# Altium footprint library SoldeerBoutLib.PcbLib: 31 footprints (part 1 of 2)
Each footprint in its own frame and in the unit in brackets; x right, y up, seen from the top. Pads: shape width x height; smd on the part's side, far side on the other; paste and mask are expansions set on the pad; w line width, h text height; cw(c..) or ccw(c..) is an arc to the next point about the centre after c.
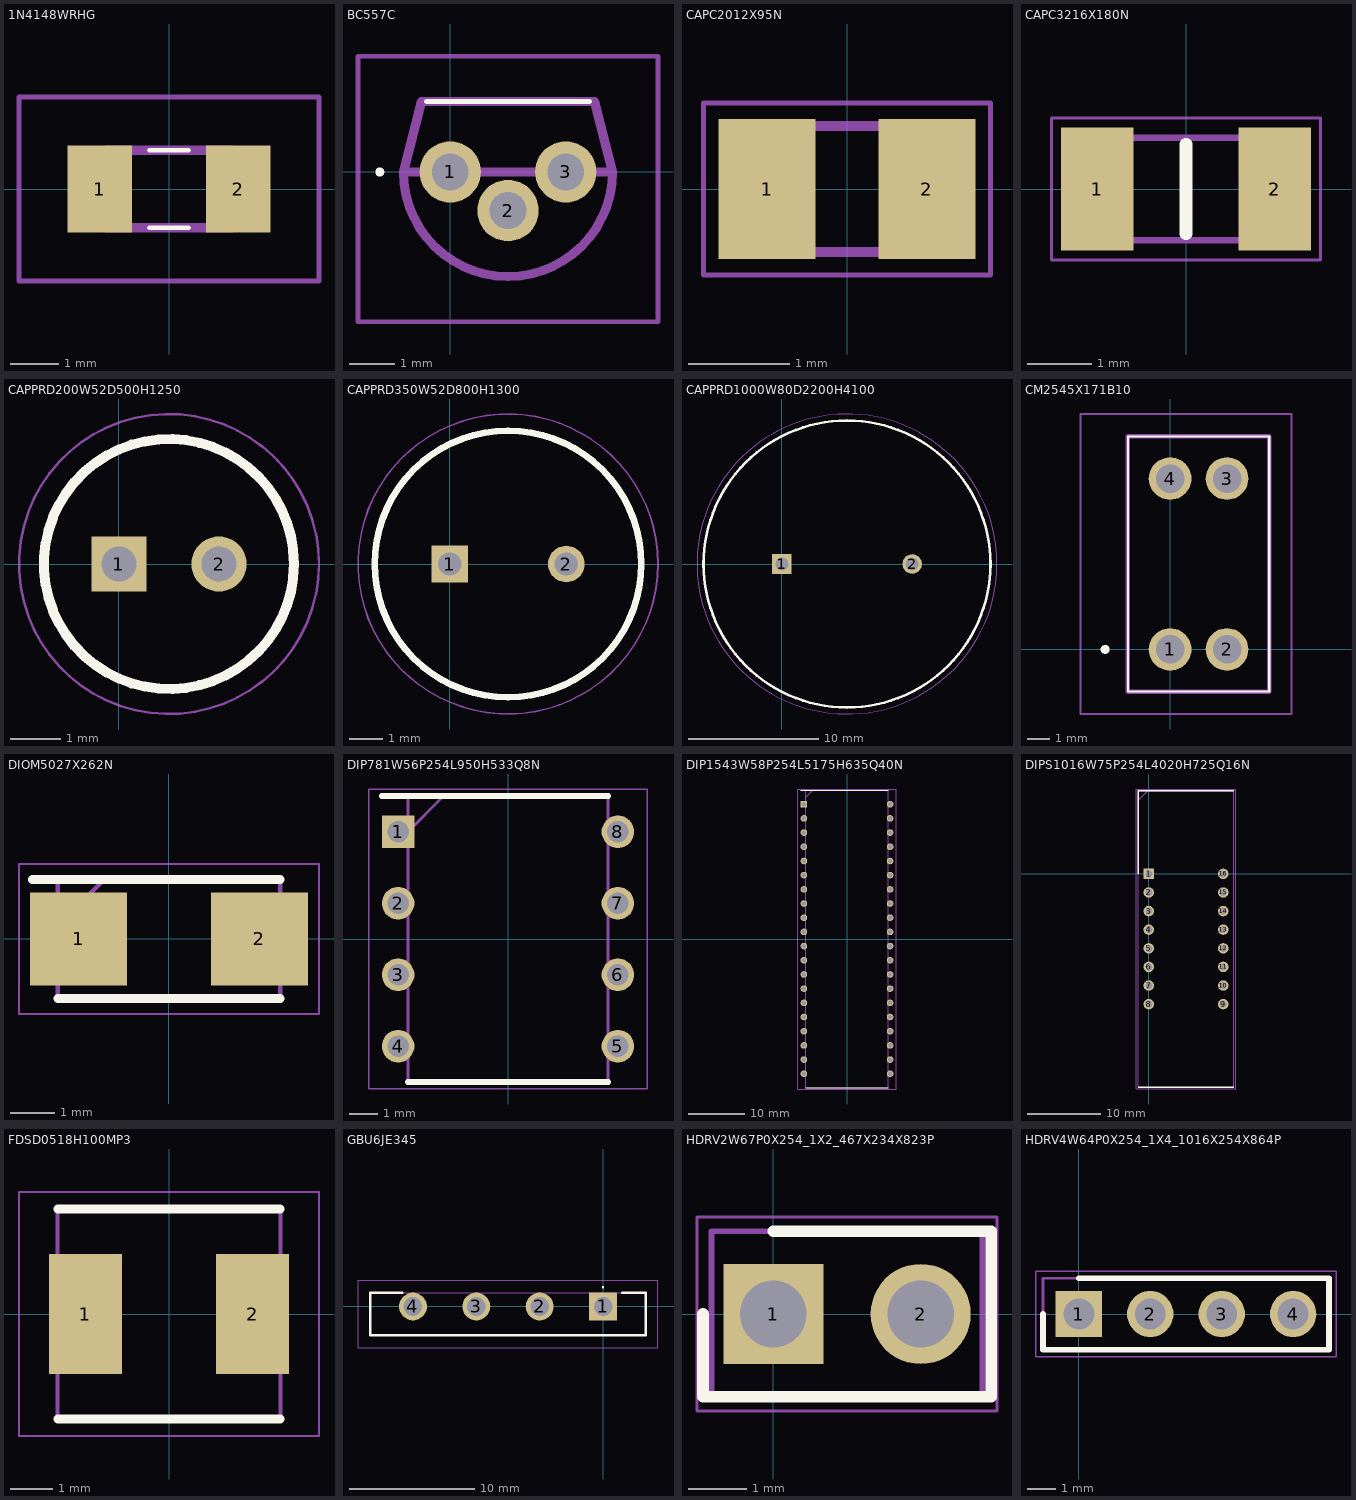
[diagram p0: the footprints below, top view; thin cyan lines are the x and y axes]

## 1N4148WRHG [mm]
pads (2):
  rect 1.34x1.8 smd: 1(-1.43,0) 2(1.43,0)
Top Overlay:
  lines w0.1: -0.4,-0.8 0.4,-0.8 ; -0.4,0.8 0.4,0.8
Mechanical 13:
  lines w0.2: -1.3,-0.8 -1.3,0.8 1.3,0.8 1.3,-0.8 -1.3,-0.8
Mechanical 15:
  lines w0.1: -3.1,-1.9 -3.1,1.9 3.1,1.9 3.1,-1.9 -3.1,-1.9
3D body "1N4148W_RHG.stp": height 1.15, standoff 0, extent -1.95,-0.85 1.95,0.85

## BC557C [mm]
pads (3):
  round 1.35 hole 0.81: 1(0,0) 2(1.27,-0.85) 3(2.54,0)
Top Overlay:
  lines w0.1: -0.53,1.55 3.07,1.55 ; -1.6,0 cw(c-1.55,0) -1.5,0 cw(c-1.55,0) -1.6,0
Mechanical 13:
  lines w0.2: -1.03,0 ccw(c1.27,0) 3.57,0 ; -1.03,0 -0.63,1.55 3.17,1.55 3.57,0 ; -1.03,0 3.57,0
Mechanical 15:
  lines w0.1: -2.03,-3.3 -2.03,2.55 4.57,2.55 4.57,-3.3 -2.03,-3.3

## CAPC2012X95N [mm]
pads (2):
  rect 0.96x1.39 smd: 1(-0.79,0) 2(0.79,0)
Mechanical 13:
  lines w0.1: -1,-0.625 1,-0.625 1,0.625 -1,0.625 -1,-0.625
Mechanical 15:
  lines w0.05: -1.42,-0.85 1.42,-0.85 1.42,0.85 -1.42,0.85 -1.42,-0.85
3D body "CC0805KPX7R9BB104.stp": height 0.95, standoff 0, extent -1,-0.625 1,0.625

## CAPC3216X180N [mm]
pads (2):
  rect 1.13x1.92 smd: 1(-1.39,0) 2(1.39,0)
Top Overlay:
  lines w0.2: 0,-0.7 0,0.7
Mechanical 13:
  lines w0.1: -1.6,-0.8 1.6,-0.8 1.6,0.8 -1.6,0.8 -1.6,-0.8
Mechanical 15:
  lines w0.05: -2.105,-1.11 2.105,-1.11 2.105,1.11 -2.105,1.11 -2.105,-1.11
3D body "CC1206KKX5R8BB106.stp": height 1.8, standoff 0, extent -1.6,-0.8 1.6,0.8

## CAPPRD200W52D500H1250 [mm]
pads (2):
  rect 1.1x1.1 hole 0.7: 1(0,0)
  round 1.1 hole 0.7: 2(2,0)
Top Overlay:
  circle w0.2: c1,0 r2.5
Mechanical 13:
  circle w0.1: c1,0 r2.5
Mechanical 15:
  circle w0.05: c1,0 r3
3D body "860010672009.stp": height 12.5, standoff -10, extent -1.75,-2.75 3.75,2.75

## CAPPRD350W52D800H1300 [mm]
pads (2):
  rect 1.1x1.1 hole 0.7: 1(0,0)
  round 1.1 hole 0.7: 2(3.5,0)
Top Overlay:
  circle w0.2: c1.75,0 r4
Mechanical 13:
  circle w0.1: c1.75,0 r4
Mechanical 15:
  circle w0.05: c1.75,0 r4.5
3D body "860010674014.stp": height 13, standoff -10, extent -2.5,-4.25 6,4.25

## CAPPRD1000W80D2200H4100 [mm]
pads (2):
  rect 1.5x1.5 hole 1: 1(0,0)
  round 1.5 hole 1: 2(10,0)
Top Overlay:
  circle w0.2: c5,0 r11
Mechanical 13:
  circle w0.1: c5,0 r11
Mechanical 15:
  circle w0.05: c5,0 r11.5
3D body "860010683032.stp": height 41, standoff -10, extent -6.25,-11.25 16.25,11.25

## CM2545X171B10 [mm]
pads (4):
  round 1.905 hole 1.27: 1(0,0) 2(2.54,0) 3(2.54,7.62) 4(0,7.62)
Top Overlay:
  lines w0.1: -1.88,-1.88 -1.88,9.5 4.42,9.5 4.42,-1.88 -1.88,-1.88
  lines w0.2: -3,0 cw(c-2.9,0) -2.8,0 cw(c-2.9,0) -3,0
Mechanical 13:
  lines w0.2: -1.88,-1.88 -1.88,9.5 4.42,9.5 4.42,-1.88 -1.88,-1.88
Mechanical 15:
  lines w0.1: -4,-2.88 -4,10.5 5.42,10.5 5.42,-2.88 -4,-2.88
3D body "CM2545X171B-10.stp": height 9.6, standoff -5, extent -1.88,-1.88 4.42,9.5

## DIOM5027X262N [mm]
pads (2):
  rect 2.2x2.1 smd: 1(-2.05,0) 2(2.05,0)
Top Overlay:
  lines w0.2: -3.1,1.35 2.52,1.35 ; -2.52,-1.35 2.52,-1.35
Mechanical 13:
  lines w0.1: -2.52,0.3 -1.47,1.35 ; -2.52,-1.35 -2.52,1.35 2.52,1.35 2.52,-1.35 -2.52,-1.35
Mechanical 15:
  lines w0.05: -3.4,-1.7 -3.4,1.7 3.4,1.7 3.4,-1.7 -3.4,-1.7
3D body "1N4007_SMD.stp": height 2.62, standoff 0, extent -2.52,-1.35 2.52,1.35

## DIP781W56P254L950H533Q8N [mm]
pads (8):
  rect 1.158x1.158 hole 0.758: 1(-3.905,3.81)
  round 1.158 hole 0.758: 2(-3.905,1.27) 3(-3.905,-1.27) 4(-3.905,-3.81) 5(3.905,-3.81) 6(3.905,-1.27) 7(3.905,1.27) 8(3.905,3.81)
Top Overlay:
  lines w0.2: -4.484,5.08 3.556,5.08 ; -3.556,-5.08 3.556,-5.08
Mechanical 13:
  lines w0.1: -3.556,3.81 -2.286,5.08 ; -3.556,-5.08 -3.556,5.08 3.556,5.08 3.556,-5.08 -3.556,-5.08
Mechanical 15:
  lines w0.05: -4.956,-5.33 -4.956,5.33 4.956,5.33 4.956,-5.33 -4.956,-5.33
3D body "MCP6002-E_P.stp": height 5.33, standoff -3.5, extent -4.045,-4.75 4.045,4.75

## DIP1543W58P254L5175H635Q40N [mm]
pads (40):
  rect 1.184x1.184 hole 0.784: 1(-7.715,24.13)
  round 1.184 hole 0.784: 2(-7.715,21.59) 3(-7.715,19.05) 4(-7.715,16.51) 5(-7.715,13.97) 6(-7.715,11.43) 7(-7.715,8.89) 8(-7.715,6.35) 9(-7.715,3.81) 10(-7.715,1.27) 11(-7.715,-1.27) 12(-7.715,-3.81) 13(-7.715,-6.35) 14(-7.715,-8.89) 15(-7.715,-11.43) 16(-7.715,-13.97) 17(-7.715,-16.51) 18(-7.715,-19.05) 19(-7.715,-21.59) 20(-7.715,-24.13) 21(7.715,-24.13) 22(7.715,-21.59) 23(7.715,-19.05) 24(7.715,-16.51) 25(7.715,-13.97) 26(7.715,-11.43) 27(7.715,-8.89) 28(7.715,-6.35) 29(7.715,-3.81) 30(7.715,-1.27) 31(7.715,1.27) 32(7.715,3.81) 33(7.715,6.35) 34(7.715,8.89) 35(7.715,11.43) 36(7.715,13.97) 37(7.715,16.51) 38(7.715,19.05) 39(7.715,21.59) 40(7.715,24.13)
Top Overlay:
  lines w0.2: -8.307,26.606 7.366,26.606 ; -7.366,-26.606 7.366,-26.606
Mechanical 13:
  lines w0.1: -7.366,25.336 -6.096,26.606 ; -7.366,-26.606 -7.366,26.606 7.366,26.606 7.366,-26.606 -7.366,-26.606
Mechanical 15:
  lines w0.05: -8.78,-26.856 -8.78,26.856 8.78,26.856 8.78,-26.856 -8.78,-26.856
3D body "ATMEGA4809-PF.stp": height 6.35, standoff -3.5, extent -7.861,-25.876 7.861,25.876

## DIPS1016W75P254L4020H725Q16N [mm]
pads (16):
  rect 1.425x1.425 hole 0.95: 1(0,0)
  round 1.425 hole 0.95: 2(0,-2.54) 3(0,-5.08) 4(0,-7.62) 5(0,-10.16) 6(0,-12.7) 7(0,-15.24) 8(0,-17.78) 9(10.16,-17.78) 10(10.16,-15.24) 11(10.16,-12.7) 12(10.16,-10.16) 13(10.16,-7.62) 14(10.16,-5.08) 15(10.16,-2.54) 16(10.16,0)
Top Overlay:
  lines w0.2: -1.445,-29.115 11.605,-29.115 ; -1.445,0 -1.445,11.335 11.605,11.335
Mechanical 13:
  lines w0.1: -1.445,10.065 -0.175,11.335 ; -1.445,-29.115 -1.445,11.335 11.605,11.335 11.605,-29.115 -1.445,-29.115
Mechanical 15:
  lines w0.05: -1.695,-29.365 -1.695,11.585 11.855,11.585 11.855,-29.365 -1.695,-29.365

## FDSD0518H100MP3 [mm]
pads (2):
  rect 1.7x2.8 smd: 1(-1.95,0) 2(1.95,0)
Top Overlay:
  lines w0.2: -2.6,-2.45 2.6,-2.45 ; -2.6,2.45 2.6,2.45
Mechanical 13:
  lines w0.1: -2.6,-2.45 -2.6,2.45 2.6,2.45 2.6,-2.45 -2.6,-2.45
Mechanical 15:
  lines w0.05: -3.5,-2.85 -3.5,2.85 3.5,2.85 3.5,-2.85 -3.5,-2.85
3D body "FDSD0518-H-100M=P3.stp": height 1.9, standoff 0, extent -2.63,-2.45 2.63,2.45

## GBU6JE345 [mm]
pads (4):
  rect 2.235x2.235 hole 1.49: 1(0,0)
  round 2.235 hole 1.49: 2(-5.08,0) 3(-10.16,0) 4(-15.24,0)
Top Overlay:
  lines w0.1: 0,1.5 ccw(c0,1.55) 0,1.6 ccw(c0,1.55) 0,1.5
  lines w0.2: -16.08,1.108 -18.645,1.108 -18.645,-2.322 3.405,-2.322 3.405,1.108 1.52,1.108
Mechanical 13:
  lines w0.1: -18.645,-2.322 -18.645,1.108 3.405,1.108 3.405,-2.322 -18.645,-2.322
Mechanical 15:
  lines w0.1: -19.645,-3.322 -19.645,2.117 4.405,2.117 4.405,-3.322 -19.645,-3.322
3D body "GBU6J-E3_45.stp": height 18.9, standoff -5, extent -18.645,-2.322 3.405,1.108

## HDRV2W67P0X254_1X2_467X234X823P [mm]
pads (2):
  rect 1.725x1.725 hole 1.15: 1(0,0)
  round 1.725 hole 1.15: 2(2.54,0)
Top Overlay:
  lines w0.2: -1.212,0 -1.212,-1.425 3.753,-1.425 3.753,1.425 0,1.425
Mechanical 13:
  lines w0.1: -1.065,-1.425 3.605,-1.425 3.605,1.425 -1.065,1.425 -1.065,-1.425
Mechanical 15:
  lines w0.05: -1.315,-1.675 3.855,-1.675 3.855,1.675 -1.315,1.675 -1.315,-1.675
3D body "5-146277-2.stp": height 8.12, standoff -3.05, extent -1.067,-1.168 3.607,1.168

## HDRV4W64P0X254_1X4_1016X254X864P [mm]
pads (4):
  rect 1.65x1.65 hole 1.1: 1(0,0)
  round 1.65 hole 1.1: 2(2.54,0) 3(5.08,0) 4(7.62,0)
Top Overlay:
  lines w0.2: -1.27,0 -1.27,-1.27 8.89,-1.27 8.89,1.27 0,1.27
Mechanical 13:
  lines w0.1: -1.27,-1.27 8.89,-1.27 8.89,1.27 -1.27,1.27 -1.27,-1.27
Mechanical 15:
  lines w0.05: -1.52,-1.52 9.14,-1.52 9.14,1.52 -1.52,1.52 -1.52,-1.52
3D body "M20-9990445.stp": height 8.64, standoff -3, extent -1.27,-1.27 8.89,1.27